# EAGLE library part BREAKOUT_BLE_NORDIC (library FaBo-Boards)
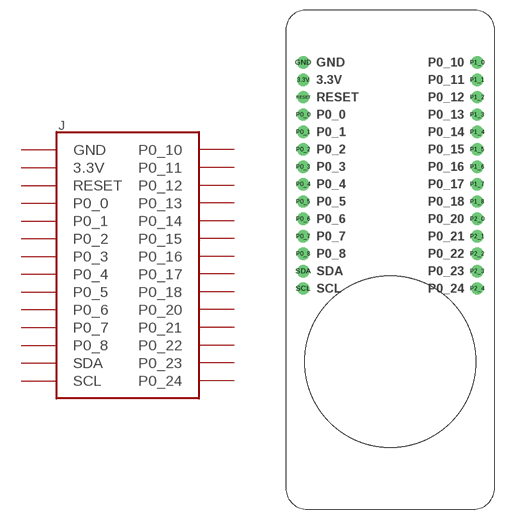
[diagram p17: symbol with the pads of BREAKOUT_BLE_NORDIC; footprint BREAKOUT_BLE_NORDIC]

Designator prefix J

## BREAKOUT_BLE_NORDIC  [BREAKOUT_BLE_NORDIC]
3.3V  3.3V
GND  GND
P0_0  P0_0
P0_1  P0_1
P0_2  P0_2
P0_3  P0_3
P0_4  P0_4
P0_5  P0_5
P0_6  P0_6
P0_7  P0_7
P0_8  P0_8
P1_0  P0_10
P1_1  P0_11
P1_2  P0_12
P1_3  P0_13
P1_4  P0_14
P1_5  P0_15
P1_6  P0_16
P1_7  P0_17
P1_8  P0_18
P2_0  P0_20
P2_1  P0_21
P2_2  P0_22
P2_3  P0_23
P2_4  P0_24
RESET  RESET
SCL  SCL
SDA  SDA

## Footprint BREAKOUT_BLE_NORDIC (pad centres in mm)
drill 1.2: 3.3V -12.7,24.13; GND -12.7,26.67; P0_0 -12.7,19.05; P0_1 -12.7,16.51; P0_2 -12.7,13.97; P0_3 -12.7,11.43; P0_4 -12.7,8.89; P0_5 -12.7,6.35; P0_6 -12.7,3.81; P0_7 -12.7,1.27; P0_8 -12.7,-1.27; P1_0 12.7,26.67; P1_1 12.7,24.13; P1_2 12.7,21.59; P1_3 12.7,19.05; P1_4 12.7,16.51; P1_5 12.7,13.97; P1_6 12.7,11.43; P1_7 12.7,8.89; P1_8 12.7,6.35; P2_0 12.7,3.81; P2_1 12.7,1.27; P2_2 12.7,-1.27; P2_3 12.7,-3.81; P2_4 12.7,-6.35; RESET -12.7,21.59; SCL -12.7,-6.35; SDA -12.7,-3.81